# Altium footprint library SAMTEC_UMPT-02-01.5-L-V-S-TR.PcbLib: 1 footprints
Each footprint in its own frame and in the unit in brackets; x right, y up, seen from the top. Pads: shape width x height; smd on the part's side, far side on the other; paste and mask are expansions set on the pad; w line width, h text height; cw(c..) or ccw(c..) is an arc to the next point about the centre after c.
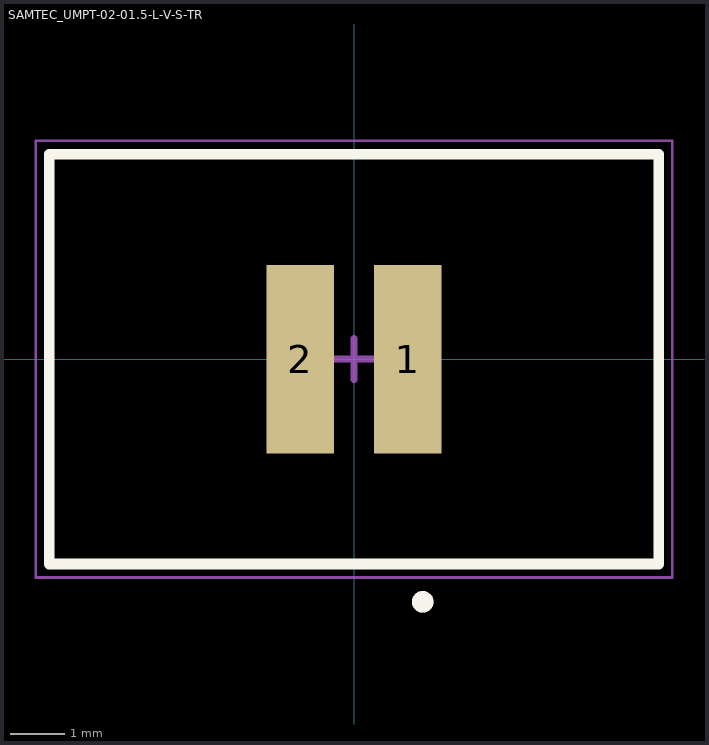
[diagram p0: the footprint, top view; thin cyan lines are the x and y axes]

## SAMTEC_UMPT-02-01.5-L-V-S-TR [mm]
pads (2):
  rect 1.25x3.5 smd: 1(1,0) 2(-1,0)
Top Overlay:
  circle w0.2: c1.275,-4.5 r0.1
  lines w0.2: -5.65,-3.8 5.65,-3.8 5.65,3.8 -5.65,3.8 -5.65,-3.8
Mechanical 13:
  circle w0.2: c1.275,-4.5 r0.1
  lines w0.1: -5.65,-3.8 -5.65,3.8 5.65,3.8 5.65,-3.8 -5.65,-3.8
Mechanical 15:
  lines w0.05: -5.9,-4.05 5.9,-4.05 5.9,4.05 -5.9,4.05 -5.9,-4.05
  lines w0.127: -0.381,0 0,0 ; 0,-0.381 0,0 ; 0,0.381 0,0 ; 0.381,0 0,0
3D body "UMPT-02-01.5-L-V-S-TR.stp": height 4.8, standoff -0.05, extent -5.65,-3.784 5.65,3.816